# EAGLE library part ATTINY24A/44A/84A (library RoboJackets-ICs)
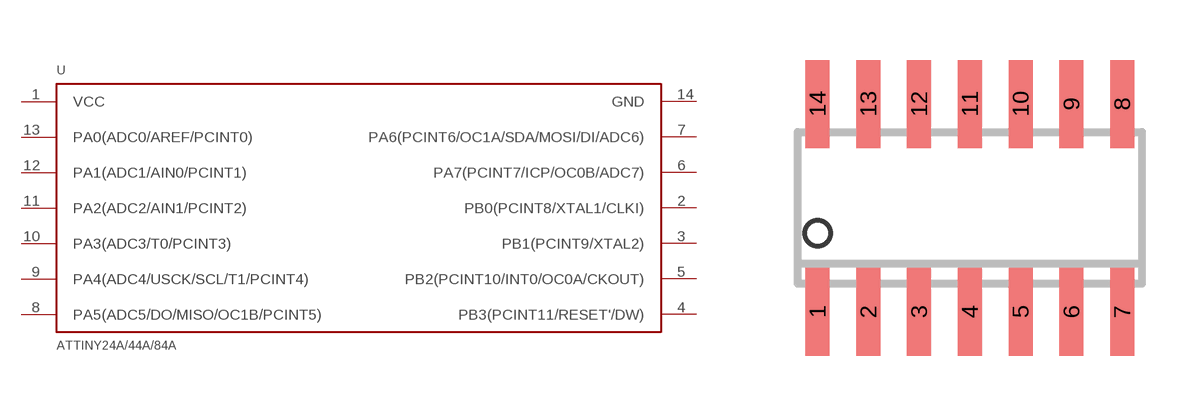
[diagram p9: symbol with the pads of SOIC-14; footprint SOIC-14]

Designator prefix U

## ATTINY24A/44A/84APDIP/SOIC  [SOIC-14]
1  VCC
2  PB0(PCINT8/XTAL1/CLKI)
3  PB1(PCINT9/XTAL2)
4  PB3(PCINT11/RESET'/DW)
5  PB2(PCINT10/INT0/OC0A/CKOUT)
6  PA7(PCINT7/ICP/OC0B/ADC7)
7  PA6(PCINT6/OC1A/SDA/MOSI/DI/ADC6)
8  PA5(ADC5/DO/MISO/OC1B/PCINT5)
9  PA4(ADC4/USCK/SCL/T1/PCINT4)
10  PA3(ADC3/T0/PCINT3)
11  PA2(ADC2/AIN1/PCINT2)
12  PA1(ADC1/AIN0/PCINT1)
13  PA0(ADC0/AREF/PCINT0)
14  GND

## Footprint SOIC-14 (pad centres in mm)
smd 0.6 x 2.2: 1 -3.81,-2.6; 2 -2.54,-2.6; 3 -1.27,-2.6; 4 0,-2.6; 5 1.27,-2.6; 6 2.54,-2.6; 7 3.81,-2.6; 8 3.81,2.6; 9 2.54,2.6; 10 1.27,2.6; 11 0,2.6; 12 -1.27,2.6; 13 -2.54,2.6; 14 -3.81,2.6